# Altium schematic symbol library Connectors.SchLib: 114 symbols (part 2 of 2)
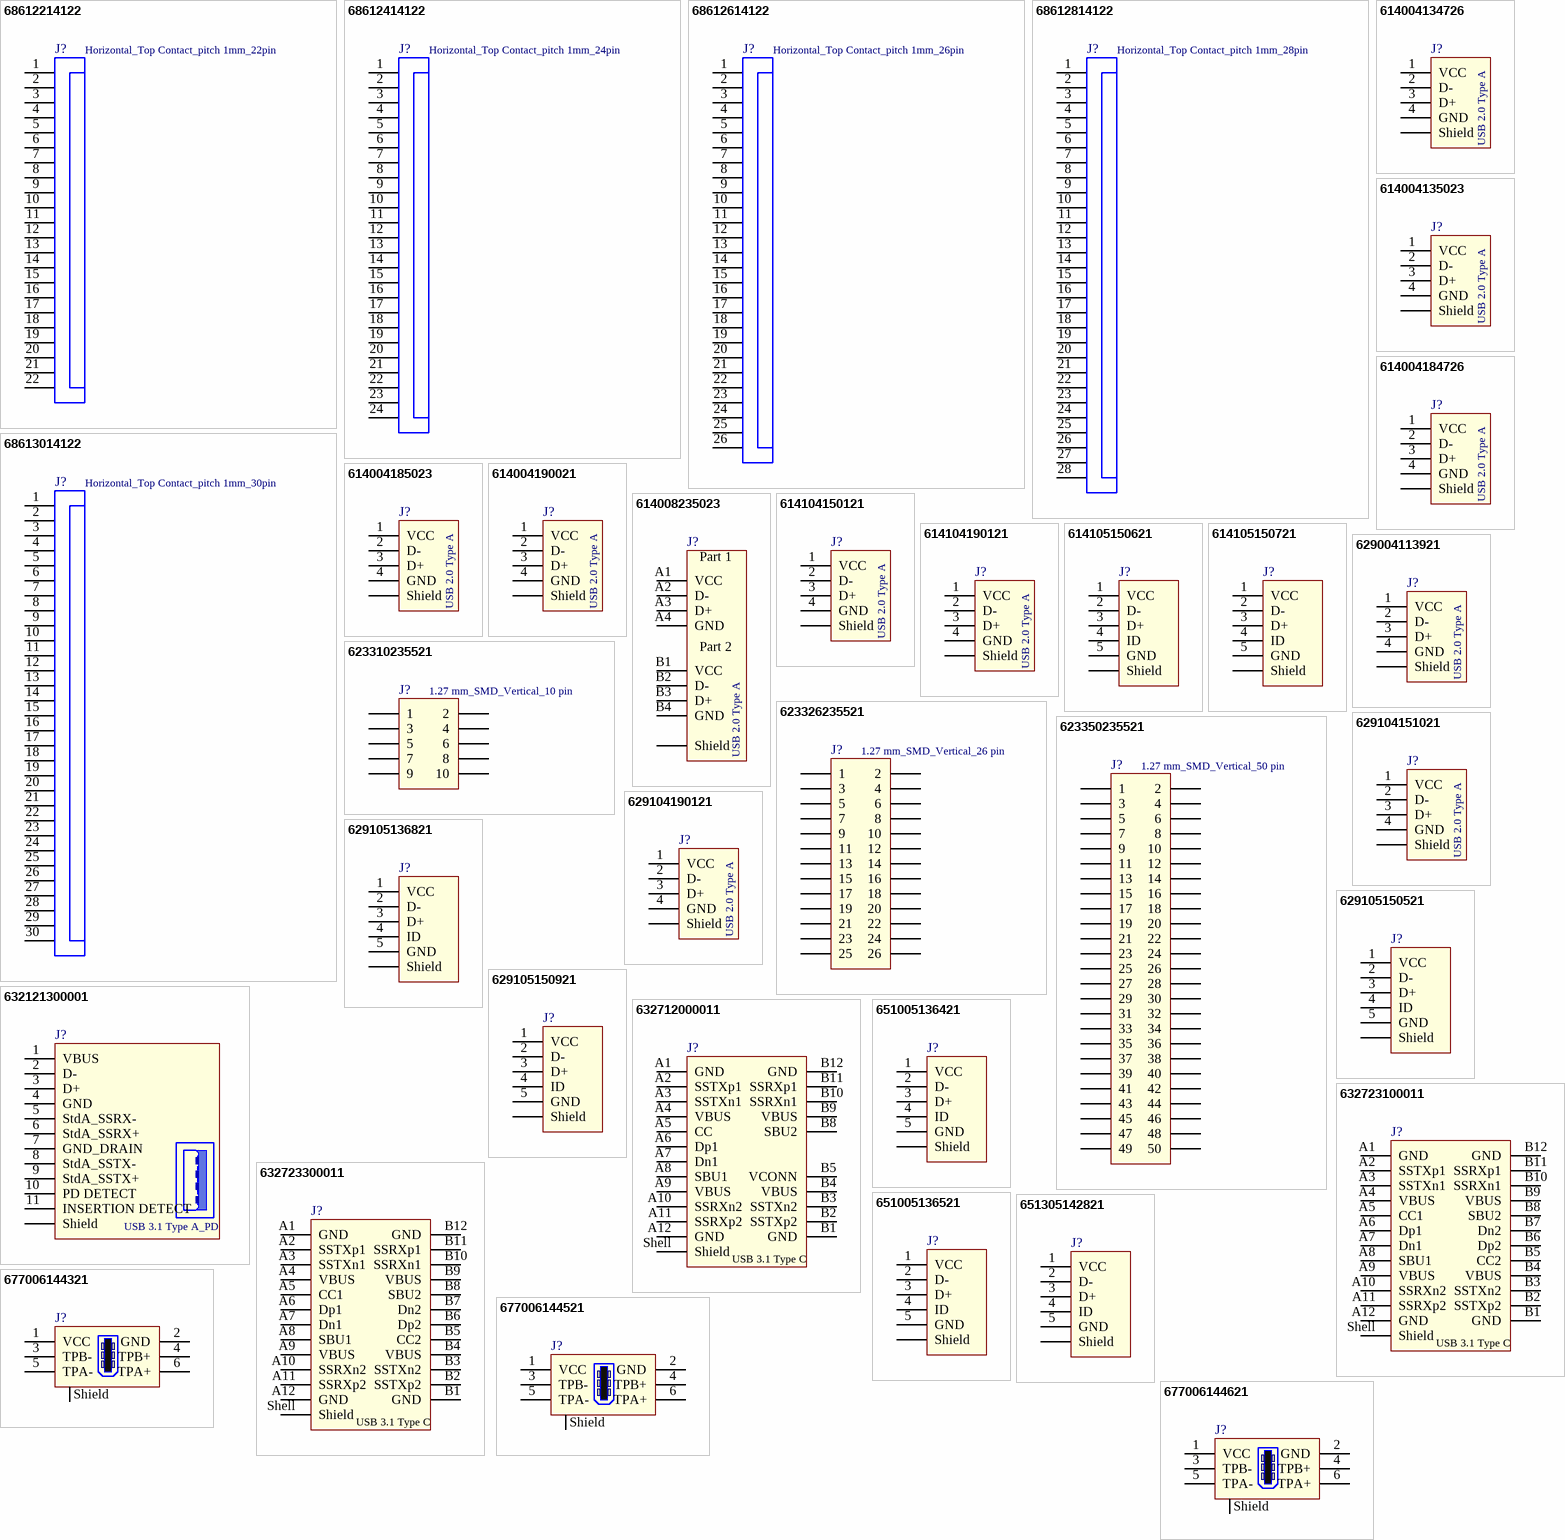
[diagram p4: symbols 68612214122 to 677006144621]

## 632121300001
designator J?
WR-COM USB 3.1 Type A Receptacle Horizontal THT Power Delivery; Part Number: 632121300001; Interface Type: Type A; Sub-Family: USB 3.1; ComponentLink1Description: Manufacturer; ComponentLink1URL: http://www.we-online.de; ComponentLink2Description: Datasheet; ComponentLink2URL: http://katalog.we-online.de/em/datasheet/632121300001.pdf; Published Date: April 2017; Publisher: Wurth Elektronik; Gender: Receptacle; Type: Horizontal; Construction: THR
footprint 632121300001 (USB 3.1 Type A Receptacle Horizontal THT Power Delivery)
pins: 1 VBUS, 2 D-, 3 D+, 4 GND, 5 StdA_SSRX-, 6 StdA_SSRX+, 7 GND_DRAIN, 8 StdA_SSTX-, 9 StdA_SSTX+, 10 PD DETECT, 11 INSERTION DETECT, Shell Shield
text: USB 3.1 Type A_PD

## 632712000011
designator J?
USB 3.1 Type C Plug Horizontal SMT WR-COM; Part Number: 632712000011; Interface Type: Type C; Sub-Family: USB 3.1; ComponentLink1Description: Manufacturer; ComponentLink1URL: http://www.we-online.de; ComponentLink2Description: Datasheet; ComponentLink2URL: http://katalog.we-online.de/em/datasheet/632712000011.pdf; Published Date: April 2017; Publisher: Wurth Elektronik; Gender: Plug; Type: Horizontal; Construction: SMT
footprint 632712000011
pins: A1 GND, A2 SSTXp1, A3 SSTXn1, A4 VBUS, A5 CC, A6 Dp1, A7 Dn1, A8 SBU1, A9 VBUS, A10 SSRXn2, A11 SSRXp2, A12 GND, B1 GND, B2 SSTXp2, B3 SSTXn2, B4 VBUS, B5 VCONN, B8 SBU2, B9 VBUS, B10 SSRXn1, B11 SSRXp1, B12 GND, Shell Shield
text: USB 3.1 Type C

## 632723100011
designator J?
USB 3.1 Type C Receptacle Horizontal THR WR-COM; Part Number: 632723100011; Interface Type: Type C; Sub-Family: USB 3.1; ComponentLink1Description: Manufacturer; ComponentLink1URL: http://www.we-online.de; ComponentLink2Description: Datasheet; ComponentLink2URL: http://katalog.we-online.de/em/datasheet/632723x00011.pdf; Published Date: April 2017; Publisher: Wurth Elektronik; Gender: Receptacle; Type: Horizontal; Construction: THR
footprint 632723100011
pins: A1 GND, A2 SSTXp1, A3 SSTXn1, A4 VBUS, A5 CC1, A6 Dp1, A7 Dn1, A8 SBU1, A9 VBUS, A10 SSRXn2, A11 SSRXp2, A12 GND, B1 GND, B2 SSTXp2, B3 SSTXn2, B4 VBUS, B5 CC2, B6 Dp2, B7 Dn2, B8 SBU2, B9 VBUS, B10 SSRXn1, B11 SSRXp1, B12 GND, Shell Shield
text: USB 3.1 Type C

## 632723300011
designator J?
USB 3.1 Type C Receptacle Horizontal THR WR-COM; Part Number: 632723300011; Interface Type: Type C; Sub-Family: USB 3.1; ComponentLink1Description: Manufacturer; ComponentLink1URL: http://www.we-online.de; ComponentLink2Description: Datasheet; ComponentLink2URL: http://katalog.we-online.de/em/datasheet/632723x00011.pdf; Published Date: April 2017; Publisher: Wurth Elektronik; Gender: Receptacle; Type: Horizontal; Construction: THR
footprint 632723300011
pins: A1 GND, A2 SSTXp1, A3 SSTXn1, A4 VBUS, A5 CC1, A6 Dp1, A7 Dn1, A8 SBU1, A9 VBUS, A10 SSRXn2, A11 SSRXp2, A12 GND, B1 GND, B2 SSTXp2, B3 SSTXn2, B4 VBUS, B5 CC2, B6 Dp2, B7 Dn2, B8 SBU2, B9 VBUS, B10 SSRXn1, B11 SSRXp1, B12 GND, Shell Shield
text: USB 3.1 Type C

## 651005136421
designator J?
Mini USB 2.0 Type B Vertical 5 Contacts WR-COM; Part Number: 651005136421; Interface Type: Type B; Gender: Receptacle; ComponentLink1Description: Manufacturer; ComponentLink1URL: http://www.we-online.de; ComponentLink2Description: Datasheet; ComponentLink2URL: http://katalog.we-online.de/em/datasheet/651005136421.pdf; Published Date: April 2017; Publisher: Wurth Elektronik; Sub-Family: Mini USB 2.0; Type: Vertical; Construction: THT
footprint 651005136421
pins: 1 VCC, 2 D-, 3 D+, 4 ID, 5 GND, Shell Shield

## 651005136521
designator J?
Mini USB 2.0 Type B Horizontal 5 Contacts WR-COM; Part Number: 651005136521; Interface Type: Type B; Gender: Receptacle; ComponentLink1Description: Manufacturer; ComponentLink1URL: http://www.we-online.de; ComponentLink2Description: Datasheet; ComponentLink2URL: http://katalog.we-online.de/em/datasheet/651005136521.pdf; Published Date: April 2017; Publisher: Wurth Elektronik; Sub-Family: Mini USB 2.0; Type: Horizontal; Construction: THT
footprint 651005136521
pins: 1 VCC, 2 D-, 3 D+, 4 ID, 5 GND, Shell Shield

## 651305142821
designator J?
Mini USB 2.0 Type AB SMT Horizontal 5 Contacts WR-COM; Part Number: 651305142821; Interface Type: Type AB; Gender: Receptacle; ComponentLink1Description: Manufacturer; ComponentLink1URL: http://www.we-online.de; ComponentLink2Description: Datasheet; ComponentLink2URL: http://katalog.we-online.de/em/datasheet/651305142821.pdf; Published Date: April 2017; Publisher: Wurth Elektronik; Sub-Family: Mini USB 2.0; Type: Horizontal; Construction: SMT
footprint 651305142821
pins: 1 VCC, 2 D-, 3 D+, 4 ID, 5 GND, Shell Shield

## 677006144321
designator J?
IEEE 1394 Up Right Receptacle WR-COM; Part Number: 677006144321; Sub-Family: IEEE 1394 / Fire Wire; ComponentLink1Description: Manufacturer; ComponentLink1URL: http://www.we-online.de; ComponentLink2Description: Datasheet; ComponentLink2URL: http://katalog.we-online.de/em/datasheet/677006144321.pdf; Published Date: April 2017; Publisher: Wurth Elektronik; Interface Type: -; Gender: Receptacle; Type: Up Right; Construction: THT
footprint 677006144321 (IEEE 1394 Up Right Receptacle WR-COM)
pins: 1 VCC, 2 GND, 3 TPB-, 4 TPB+, 5 TPA-, 6 TPA+, Shell Shield

## 677006144521
designator J?
IEEE 1394 Horizontal Receptacle WR-COM; Part Number: 677006144521; Sub-Family: IEEE 1394 / Fire Wire; ComponentLink1Description: Manufacturer; ComponentLink1URL: http://www.we-online.de; ComponentLink2Description: Datasheet; ComponentLink2URL: http://katalog.we-online.de/em/datasheet/677006144521.pdf; Published Date: April 2017; Publisher: Wurth Elektronik; Interface Type: -; Gender: Receptacle; Type: Horizontal; Construction: THT
footprint 677006144521 (IEEE 1394 Horizontal Receptacle WR-COM)
pins: 1 VCC, 2 GND, 3 TPB-, 4 TPB+, 5 TPA-, 6 TPA+, Shell Shield

## 677006144621
designator J?
IEEE 1394 Vertical Receptacle WR-COM; Part Number: 677006144621; Sub-Family: IEEE 1394 / Fire Wire; ComponentLink1Description: Manufacturer; ComponentLink1URL: http://www.we-online.de; ComponentLink2Description: Datasheet; ComponentLink2URL: http://katalog.we-online.de/em/datasheet/677006144621.pdf; Published Date: April 2017; Publisher: Wurth Elektronik; Interface Type: -; Gender: Receptacle; Type: Vertical; Construction: THT
footprint 677006144621 (IEEE 1394 Vertical Receptacle)
pins: 1 VCC, 2 GND, 3 TPB-, 4 TPB+, 5 TPA-, 6 TPA+, Shell Shield

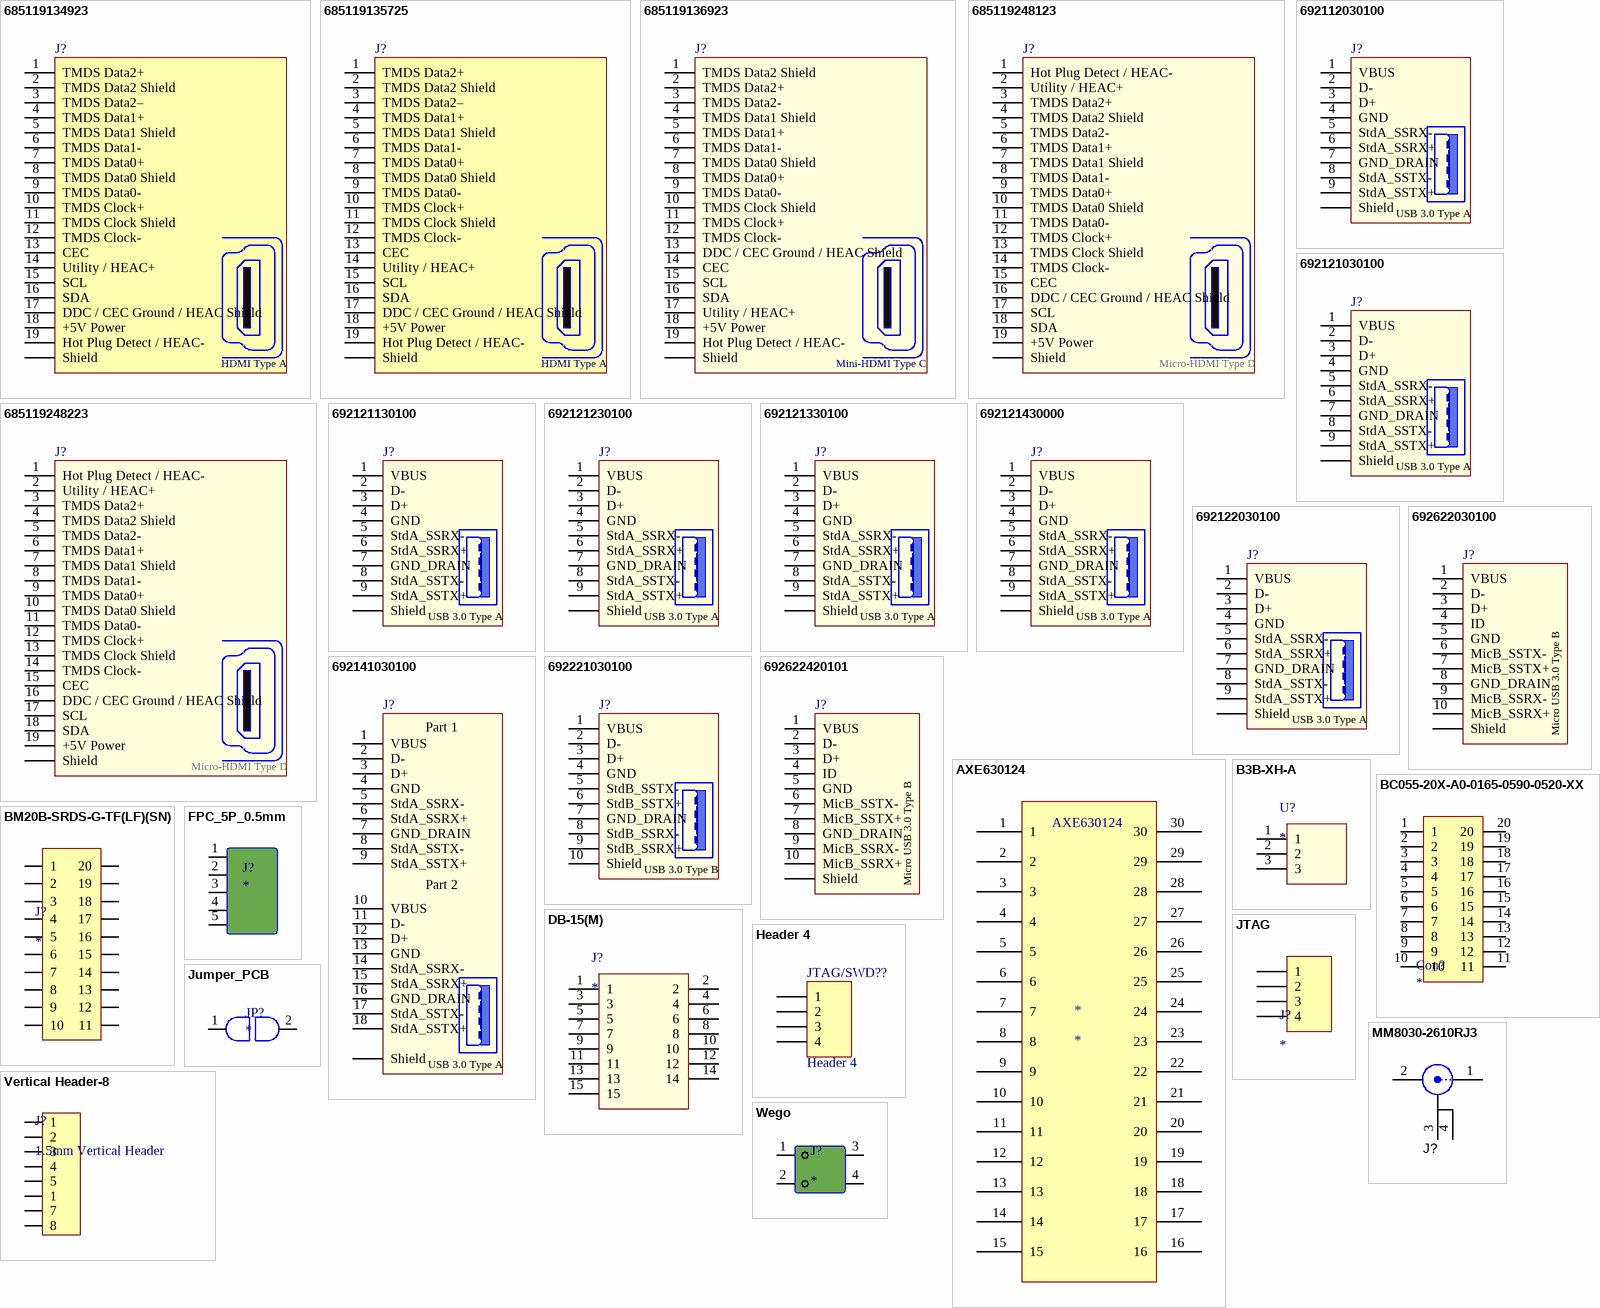
[diagram p3: symbols 685119134923 to Wego]

## 685119134923
designator J?
HDMI SMT Horizontal WR-COM; Part Number: 685119134923; Interface Type: Type A; Gender: Receptacle; ComponentLink1Description: Manufacturer; ComponentLink1URL: http://www.we-online.de; ComponentLink2Description: Datasheet; ComponentLink2URL: http://katalog.we-online.de/em/datasheet/685119134923.pdf; Published Date: April 2017; Publisher: Wurth Elektronik; Sub-Family: HDMI; Type: Horizontal; Construction: SMT
footprint 685119134923 (HDMI SMT Horizontal)
pins: 1 TMDS Data2+, 2 TMDS Data2 Shield, 3 TMDS Data2–, 4 TMDS Data1+, 5 TMDS Data1 Shield, 6 TMDS Data1-, 7 TMDS Data0+, 8 TMDS Data0 Shield, 9 TMDS Data0-, 10 TMDS Clock+, 11 TMDS Clock Shield, 12 TMDS Clock-, 13 CEC, 14 Utility / HEAC+, 15 SCL, 16 SDA, 17 DDC / CEC Ground / HEAC Shield, 18 +5V Power, 19 Hot Plug Detect / HEAC-, Shell Shield
text: HDMI Type A

## 685119135725
designator J?
HDMI SMT Horizontal with M3 screw WR-COM; Part Number: 685119135725; Interface Type: Type A; Gender: Receptacle; ComponentLink1Description: Manufacturer; ComponentLink1URL: http://www.we-online.de; ComponentLink2Description: Datasheet; ComponentLink2URL: http://katalog.we-online.de/em/datasheet/685119135725.pdf; Published Date: April 2017; Publisher: Wurth Elektronik; Sub-Family: HDMI; Type: Horizontal; Construction: SMT
footprint 685119135725 (HDMI SMT Horizontal with M3 screw)
pins: 1 TMDS Data2+, 2 TMDS Data2 Shield, 3 TMDS Data2–, 4 TMDS Data1+, 5 TMDS Data1 Shield, 6 TMDS Data1-, 7 TMDS Data0+, 8 TMDS Data0 Shield, 9 TMDS Data0-, 10 TMDS Clock+, 11 TMDS Clock Shield, 12 TMDS Clock-, 13 CEC, 14 Utility / HEAC+, 15 SCL, 16 SDA, 17 DDC / CEC Ground / HEAC Shield, 18 +5V Power, 19 Hot Plug Detect / HEAC-, Shell Shield
text: HDMI Type A

## 685119136923
designator J?
Mini HDMI SMT Horizontal WR-COM; Part Number: 685119136923; Interface Type: Type C; Gender: Receptacle; ComponentLink1Description: Manufacturer; ComponentLink1URL: http://www.we-online.de; ComponentLink2Description: Datasheet; ComponentLink2URL: http://katalog.we-online.de/em/datasheet/685119136923.pdf; Published Date: April 2017; Publisher: Wurth Elektronik; Sub-Family: Mini HDMI; Type: Horizontal; Construction: SMT
footprint 685119136923 (Mini HDMI SMT Horizontal)
pins: 1 TMDS Data2 Shield, 2 TMDS Data2+, 3 TMDS Data2-, 4 TMDS Data1 Shield, 5 TMDS Data1+, 6 TMDS Data1-, 7 TMDS Data0 Shield, 8 TMDS Data0+, 9 TMDS Data0-, 10 TMDS Clock Shield, 11 TMDS Clock+, 12 TMDS Clock-, 13 DDC / CEC Ground / HEAC Shield, 14 CEC, 15 SCL, 16 SDA, 17 Utility / HEAC+, 18 +5V Power, 19 Hot Plug Detect / HEAC-, Shell Shield
text: Mini-HDMI Type C

## 685119248123
designator J?
Micro HDMI Horizontal SMT WR-COM; Part Number: 685119248123; Interface Type: Type D; Gender: Receptacle; ComponentLink1Description: Manufacturer; ComponentLink1URL: http://www.we-online.de; ComponentLink2Description: Datasheet; ComponentLink2URL: http://katalog.we-online.de/em/datasheet/685119248123.pdf; Published Date: April 2017; Publisher: Wurth Elektronik; Sub-Family: Micro HDMI; Type: Horizontal; Construction: SMT
footprint 685119248123 (Micro HDMI Horizontal SMT)
pins: 1 Hot Plug Detect / HEAC-, 2 Utility / HEAC+, 3 TMDS Data2+, 4 TMDS Data2 Shield, 5 TMDS Data2-, 6 TMDS Data1+, 7 TMDS Data1 Shield, 8 TMDS Data1-, 9 TMDS Data0+, 10 TMDS Data0 Shield, 11 TMDS Data0-, 12 TMDS Clock+, 13 TMDS Clock Shield, 14 TMDS Clock-, 15 CEC, 16 DDC / CEC Ground / HEAC Shield, 17 SCL, 18 SDA, 19 +5V Power, Shell Shield
text: Micro-HDMI Type D

## 685119248223
designator J?
Micro HDMI Horizontal SMT Hybrid Mount WR-COM; Part Number: 685119248223; Interface Type: Type D; Gender: Receptacle; ComponentLink1Description: Manufacturer; ComponentLink1URL: http://www.we-online.de; ComponentLink2Description: Datasheet; ComponentLink2URL: http://katalog.we-online.de/em/datasheet/685119248223.pdf; Published Date: April 2017; Publisher: Wurth Elektronik; Sub-Family: Micro HDMI; Type: Horizontal; Construction: SMT
footprint 685119248223 (Micro HDMI Horizontal SMT Hybrid Mount)
pins: 1 Hot Plug Detect / HEAC-, 2 Utility / HEAC+, 3 TMDS Data2+, 4 TMDS Data2 Shield, 5 TMDS Data2-, 6 TMDS Data1+, 7 TMDS Data1 Shield, 8 TMDS Data1-, 9 TMDS Data0+, 10 TMDS Data0 Shield, 11 TMDS Data0-, 12 TMDS Clock+, 13 TMDS Clock Shield, 14 TMDS Clock-, 15 CEC, 16 DDC / CEC Ground / HEAC Shield, 17 SCL, 18 SDA, 19 +5V Power, Shell Shield
text: Micro-HDMI Type D

## 692112030100
designator J?
USB 3.0 Type A SMT Plug with Clip WR-COM; Part Number: 692112030100; Interface Type: Type A; Sub-Family: USB 3.0; ComponentLink1Description: Manufacturer; ComponentLink1URL: http://www.we-online.de; ComponentLink2Description: Datasheet; ComponentLink2URL: http://katalog.we-online.de/em/datasheet/692112030100.pdf; Published Date: April 2017; Publisher: Wurth Elektronik; Gender: Plug; Type: Horizontal; Construction: SMT
footprint 692112030100
pins: 1 VBUS, 2 D-, 3 D+, 4 GND, 5 StdA_SSRX-, 6 StdA_SSRX+, 7 GND_DRAIN, 8 StdA_SSTX-, 9 StdA_SSTX+, Shell Shield
text: USB 3.0 Type A

## 692121030100
designator J?
USB 3.0 Type A Horizontal WR-COM; Part Number: 692121030100; Interface Type: Type A; Sub-Family: USB 3.0; Gender: Receptacle; ComponentLink1Description: Manufacturer; ComponentLink1URL: http://www.we-online.de; ComponentLink2Description: Datasheet; ComponentLink2URL: http://katalog.we-online.de/em/datasheet/692121030100.pdf; Published Date: April 2017; Publisher: Wurth Elektronik; Type: Horizontal; Construction: THT
footprint 692121030100
pins: 1 VBUS, 2 D-, 3 D+, 4 GND, 5 StdA_SSRX-, 6 StdA_SSRX+, 7 GND_DRAIN, 8 StdA_SSTX-, 9 StdA_SSTX+, Shell Shield
text: USB 3.0 Type A

## 692121130100
designator J?
USB 3.0 Type A Reverse Horizontal w. Offset 0.14mm WR-COM; Part Number: 692121130100; Interface Type: Type A; Sub-Family: USB 3.0; Gender: Receptacle; ComponentLink1Description: Manufacturer; ComponentLink1URL: http://www.we-online.de; ComponentLink2Description: Datasheet; ComponentLink2URL: http://katalog.we-online.de/em/datasheet/692121130100.pdf; Published Date: April 2017; Publisher: Wurth Elektronik; Type: Reserve Horizontal; Construction: Construction
footprint 692121130100
pins: 1 VBUS, 2 D-, 3 D+, 4 GND, 5 StdA_SSRX-, 6 StdA_SSRX+, 7 GND_DRAIN, 8 StdA_SSTX-, 9 StdA_SSTX+, Shell Shield
text: USB 3.0 Type A

## 692121230100
designator J?
USB 3.0 Type A Horizontal with Offset 1.04mm WR-COM; Part Number: 692121230100; Interface Type: Type A; Sub-Family: USB 3.0; Gender: Receptacle; ComponentLink1Description: Manufacturer; ComponentLink1URL: http://www.we-online.de; ComponentLink2Description: Datasheet; ComponentLink2URL: http://katalog.we-online.de/em/datasheet/692121230100.pdf; Published Date: April 2017; Publisher: Wurth Elektronik; Type: Horizontal; Construction: THR
footprint 692121230100
pins: 1 VBUS, 2 D-, 3 D+, 4 GND, 5 StdA_SSRX-, 6 StdA_SSRX+, 7 GND_DRAIN, 8 StdA_SSTX-, 9 StdA_SSTX+, Shell Shield
text: USB 3.0 Type A

## 692121330100
designator J?
USB 3.0 Type A Reverse Horizontal with Offset 1.75mm WR-COM; Part Number: 692121330100; Interface Type: Type A; Sub-Family: USB 3.0; Gender: Receptacle; ComponentLink1Description: Manufacturer; ComponentLink1URL: http://www.we-online.de; ComponentLink2Description: Datasheet; ComponentLink2URL: http://katalog.we-online.de/em/datasheet/692121330100.pdf; Published Date: April 2017; Publisher: Wurth Elektronik; Type: Reserve Horizontal; Construction: THR
footprint 692121330100
pins: 1 VBUS, 2 D-, 3 D+, 4 GND, 5 StdA_SSRX-, 6 StdA_SSRX+, 7 GND_DRAIN, 8 StdA_SSTX-, 9 StdA_SSTX+, Shell Shield
text: USB 3.0 Type A

## 692121430000
designator J?
USB 3.0 Type A Vertical THT WR-COM; Part Number: 692121430000; Interface Type: Type A; Sub-Family: USB 3.0; Gender: Receptacle; ComponentLink1Description: Manufacturer; ComponentLink1URL: http://www.we-online.de; ComponentLink2Description: Datasheet; ComponentLink2URL: http://katalog.we-online.de/em/datasheet/692121430000.pdf; Published Date: April 2017; Publisher: Wurth Elektronik; Type: Vertical; Construction: THT
footprint 692121430000
pins: 1 VBUS, 2 D-, 3 D+, 4 GND, 5 StdA_SSRX-, 6 StdA_SSRX+, 7 GND_DRAIN, 8 StdA_SSTX-, 9 StdA_SSTX+, Shell Shield
text: USB 3.0 Type A

## 692122030100
designator J?
USB 3.0 Type A Horizontal SMD WR-COM; Part Number: 692122030100; Interface Type: Type A; Sub-Family: USB 3.0; Gender: Receptacle; ComponentLink1Description: Manufacturer; ComponentLink1URL: http://www.we-online.de; ComponentLink2Description: Datasheet; ComponentLink2URL: http://katalog.we-online.de/em/datasheet/692122030100.pdf; Published Date: April 2017; Publisher: Wurth Elektronik; Type: Horizontal; Construction: SMT
footprint 692122030100
pins: 1 VBUS, 2 D-, 3 D+, 4 GND, 5 StdA_SSRX-, 6 StdA_SSRX+, 7 GND_DRAIN, 8 StdA_SSTX-, 9 StdA_SSTX+, Shell Shield
text: USB 3.0 Type A

## 692141030100
designator J?
USB 3.0 Type A Stacked WR-COM; Part Number: 692141030100; Interface Type: Type A; Sub-Family: USB 3.0; Gender: Receptacle; ComponentLink1Description: Manufacturer; ComponentLink1URL: http://www.we-online.de; ComponentLink2Description: Datasheet; ComponentLink2URL: http://katalog.we-online.de/em/datasheet/692141030100.pdf; Published Date: April 2017; Publisher: Wurth Elektronik; Type: Stacked Horizontal; Construction: THR
footprint 692141030100
pins: 1 VBUS, 2 D-, 3 D+, 4 GND, 5 StdA_SSRX-, 6 StdA_SSRX+, 7 GND_DRAIN, 8 StdA_SSTX-, 9 StdA_SSTX+, 10 VBUS, 11 D-, 12 D+, 13 GND, 14 StdA_SSRX-, 15 StdA_SSRX+, 16 GND_DRAIN, 17 StdA_SSTX-, 18 StdA_SSTX+, Shell Shield
text: Part 1; Part 2; USB 3.0 Type A

## 692221030100
designator J?
USB 3.0 Type B Horizontal WR-COM; Part Number: 692221030100; Interface Type: Type B; Sub-Family: USB 3.0; Gender: Receptacle; ComponentLink1Description: Manufacturer; ComponentLink1URL: http://www.we-online.de; ComponentLink2Description: Datasheet; ComponentLink2URL: http://katalog.we-online.de/em/datasheet/692221030100.pdf; Published Date: April 2017; Publisher: Wurth Elektronik; Type: Horizontal; Construction: THT
footprint USB-3 Type_B
pins: 1 VBUS, 2 D-, 3 D+, 4 GND, 5 StdB_SSTX-, 6 StdB_SSTX+, 7 GND_DRAIN, 8 StdB_SSRX-, 9 StdB_SSRX+, 10 Shield
text: USB 3.0 Type B

## 692622030100
designator J?
Micro USB 3.0 Type B Horizontal SMT WR-COM; Part Number: 692622030100; Interface Type: Type B; Gender: Receptacle; ComponentLink1Description: Manufacturer; ComponentLink1URL: http://www.we-online.de; ComponentLink2Description: Datasheet; ComponentLink2URL: http://katalog.we-online.de/em/datasheet/692622030100.pdf; Published Date: April 2017; Publisher: Wurth Elektronik; Sub-Family: Micro USB 3.0; Type: Horizontal; Construction: SMT
footprint 692622030100
pins: 1 VBUS, 2 D-, 3 D+, 4 ID, 5 GND, 6 MicB_SSTX-, 7 MicB_SSTX+, 8 GND_DRAIN, 9 MicB_SSRX-, 10 MicB_SSRX+, Shell Shield
text: Micro USB 3.0 Type B

## 692622420101
designator J?
Micro USB 3.0 Type B Vertical SMT WR-COM; Part Number: 692622420101; Interface Type: Type B; Gender: Receptacle; ComponentLink1Description: Manufacturer; ComponentLink1URL: http://www.we-online.de; ComponentLink2Description: Datasheet; ComponentLink2URL: http://katalog.we-online.de/em/datasheet/692622420101.pdf; Published Date: April 2017; Publisher: Wurth Elektronik; Sub-Family: Micro USB 3.0; Type: Vertical; Construction: SMT
footprint 692622420101
pins: 1 VBUS, 2 D-, 3 D+, 4 ID, 5 GND, 6 MicB_SSTX-, 7 MicB_SSTX+, 8 GND_DRAIN, 9 MicB_SSRX-, 10 MicB_SSRX+, Shell Shield
text: Micro USB 3.0 Type B

## AXE630124
designator *
footprint AXE630124
pins: 1, 2, 3, 4, 5, 6, 7, 8, 9, 10, 11, 12, 13, 14, 15, 16, 17, 18, 19, 20, 21, 22, 23, 24, 25, 26, 27, 28, 29, 30

## B3B-XH-A
designator U?
footprint B3B-XH-A
pins: 1, 2, 3

## BC055-20X-A0-0165-0590-0520-XX
designator Con?
footprint BC055-20X-A0-0165-0590-0520-XX
pins: 1, 2, 3, 4, 5, 6, 7, 8, 9, 10, 11, 12, 13, 14, 15, 16, 17, 18, 19, 20

## BM20B-SRDS-G-TF(LF)(SN)
designator J?
footprint BM20B-SRDS-G-TF(LF)(SN)
pins: 1, 2, 3, 4, 5, 6, 7, 8, 9, 10, 11, 12, 13, 14, 15, 16, 17, 18, 19, 20

## DB-15(M)
designator J?
footprint DB-15_M
pins: 1, 2, 3, 4, 5, 6, 7, 8, 9, 10, 11, 12, 13, 14, 15

## FPC_5P_0.5mm
designator J?
footprint FPC_5P_0.5mm
pins: 1, 2, 3, 4, 5

## Header 4
designator JTAG/SWD??
Header, 4-Pin; LatestRevisionDate: 17-Jul-2002; LatestRevisionNote: Re-released for DXP Platform.; Publisher: Altium Limited
signal-integrity model Connector
footprint HDR1X4 (Connector; Header; 4 Position)
pins: 1, 2, 3, 4

## JTAG
designator J?
footprint HDR1X4 (Connector; Header; 4 Position)
footprint HDR1X4_1.27mm (Connector; Header; 4 Position)
pins: 1, 2, 3, 4

## Jumper_PCB
designator JP?
footprint Jumper_PCB
footprint Jumper_PCB_Sig
pins: 1, 2

## MM8030-2610RJ3
designator J?  (value not drawn)
Coaxial Connectors with Switch, 50 Ohm, SMD; Manufacturer: MuRata; SymbolCreator: Altium; U/M: EA; SymbolVerison: 2015-01-04; PartNumber: MM8030-2610RJ3; PackageReference: Coaxial Connector with Switch; CompType: Connector; RoHS: Y; MountType: SMT; ComponentLink1Description: Datasheet Link; ComponentLink1URL: http://www.murata.com/~/media/webrenewal/support/library/catalog/products/switch/switch/o33e.ashx; Publisher: Texas Instruments; LatestRevisionDate: 2015-02-17; Supplier 1: Digi-Key; Supplier Part Number 1: 90-5907-1-ND; Supplier 2: Mouser; Supplier Part Number 2: 81-MM8030-2610RJ3
footprint MURATA_MM8030-2610
pins: 1 IN, 2 OUT, 3 GND (power), 4 GND

## Vertical Header-8
designator J?, comment 1.5mm Vertical Header
footprint 0874370843
pins: 1, 2, 3, 4, 5, 6 1, 7, 8

## Wego
designator J?
footprint wego
pins: 1, 2, 3, 4